# Altium integrated library AC-DC_MODULE.IntLib: 1 symbol
Pins are listed as number, name and electrical type; pins without a type are passive.

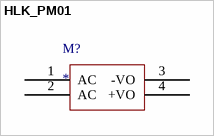
[diagram p0: symbol HLK_PM01]

## HLK_PM01
designator M?
footprint HLK_PM01
pins: 1 AC, 2 AC, 3 -VO, 4 +VO